# Altium integrated library ALTIUM-WE-TVS-HS-rev18b.IntLib: 32 symbols
Pins are listed as number, name and electrical type; pins without a type are passive.

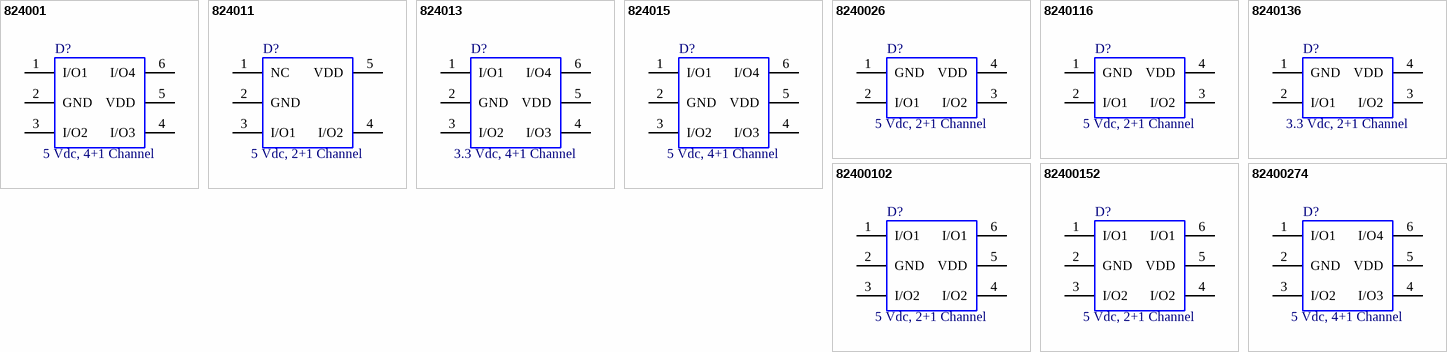
[diagram p0: symbols 824001 to 82400274]

## 824001
designator D?, comment 5 Vdc, 4+1 Channel
TVS Diode - High Speed Series WE-TVS, SOT23-6L, 5 Vdc, 4+1 Channel; Part Number: 824001; Reverse Breakdown Voltage min.: 6.2 V; Channel Input Capacitance: 1 pF; Reverse Peak Pulse Current: 5 A; Reverse Channel Leakage Current: 5 uA; DC Operating Voltage: 5 V; ComponentLink1Description: Manufacturer; ComponentLink1URL: http://www.we-online.de; ComponentLink2Description: Datasheet; ComponentLink2URL: https://katalog.we-online.de/pbs/datasheet/824001.pdf; Published Date: November 2018; Publisher: Wurth Elektronik; Size: SOT23-6L; Channel: 4+1; Operating Temperature: -40 to 125 degC; Mounting Technology: SMT; Packaging: Tape and Reel
footprint WE-TVS_High Speed_SOT23-6L
pins: 1 I/O1, 2 GND, 3 I/O2, 4 I/O3, 5 VDD, 6 I/O4

## 824011
designator D?, comment 5 Vdc, 2+1 Channel
TVS Diode - High Speed Series WE-TVS, SOT23-5L, 5 Vdc, 2+1 Channel; Part Number: 824011; Reverse Breakdown Voltage min.: 6.1 V; Channel Input Capacitance: 2 pF; Reverse Peak Pulse Current: 12 A; Reverse Channel Leakage Current: 5 uA; DC Operating Voltage: 5 V; ComponentLink1Description: Manufacturer; ComponentLink1URL: http://www.we-online.de; ComponentLink2Description: Datasheet; ComponentLink2URL: https://katalog.we-online.de/pbs/datasheet/824011.pdf; Published Date: November 2018; Publisher: Wurth Elektronik; Size: SOT23-5L; Channel: 2+1; Operating Temperature: -55 to 125 degC; Mounting Technology: SMT; Packaging: Tape and Reel
footprint WE-TVS_High Speed_SOT23-5L
pins: 1 NC, 2 GND, 3 I/O1, 4 I/O2, 5 VDD

## 824013
designator D?, comment 3.3 Vdc, 4+1 Channel
TVS Diode - High Speed Series WE-TVS, SOT23-6L, 3.3 Vdc, 4+1 Channel; Part Number: 824013; Reverse Breakdown Voltage min.: 4.5 V; Channel Input Capacitance: 3 pF; Reverse Peak Pulse Current: 12 A; Reverse Channel Leakage Current: 5 uA; DC Operating Voltage: 3.3 V; ComponentLink1Description: Manufacturer; ComponentLink1URL: http://www.we-online.de; ComponentLink2Description: Datasheet; ComponentLink2URL: https://katalog.we-online.de/pbs/datasheet/824013.pdf; Published Date: November 2018; Publisher: Wurth Elektronik; Size: SOT23-6L; Channel: 4+1; Operating Temperature: -40 to 125 degC; Mounting Technology: SMT; Packaging: Tape and Reel
footprint WE-TVS_High Speed_SOT23-6L
pins: 1 I/O1, 2 GND, 3 I/O2, 4 I/O3, 5 VDD, 6 I/O4

## 824015
designator D?, comment 5 Vdc, 4+1 Channel
TVS Diode - High Speed Series WE-TVS, SOT23-6L, 5 Vdc, 4+1 Channel; Part Number: 824015; Reverse Breakdown Voltage min.: 6.1 V; Channel Input Capacitance: 2 pF; Reverse Peak Pulse Current: 12 A; Reverse Channel Leakage Current: 2 uA; DC Operating Voltage: 5 V; ComponentLink1Description: Manufacturer; ComponentLink1URL: http://www.we-online.de; ComponentLink2Description: Datasheet; ComponentLink2URL: https://katalog.we-online.de/pbs/datasheet/824015.pdf; Published Date: November 2018; Publisher: Wurth Elektronik; Size: SOT23-6L; Channel: 4+1; Operating Temperature: -40 to 125 degC; Mounting Technology: SMT; Packaging: Tape and Reel
footprint WE-TVS_High Speed_SOT23-6L
pins: 1 I/O1, 2 GND, 3 I/O2, 4 I/O3, 5 VDD, 6 I/O4

## 8240026
designator D?, comment 5 Vdc, 2+1 Channel
TVS Diode - High Speed Series WE-TVS, SOT143-4L, 5 Vdc, 2+1 Channel; Part Number: 8240026; Reverse Breakdown Voltage min.: 6 V; Channel Input Capacitance: 1.2 pF; Reverse Peak Pulse Current: 6 A; Reverse Channel Leakage Current: 1 uA; DC Operating Voltage: 5 V; ComponentLink1Description: Manufacturer; ComponentLink1URL: http://www.we-online.de; ComponentLink2Description: Datasheet; ComponentLink2URL: https://katalog.we-online.de/pbs/datasheet/8240026.pdf; Published Date: November 2018; Publisher: Wurth Elektronik; Size: SOT143-4L; Channel: 2+1; Operating Temperature: -55 to 125 degC; Mounting Technology: SMT; Packaging: Tape and Reel
footprint WE-TVS_High Speed_SOT143-4L
pins: 1 GND, 2 I/O1, 3 I/O2, 4 VDD

## 8240116
designator D?, comment 5 Vdc, 2+1 Channel
TVS Diode - High Speed Series WE-TVS, SOT143-4L, 5 Vdc, 2+1 Channel; Part Number: 8240116; Reverse Breakdown Voltage min.: 6.1 V; Channel Input Capacitance: 2 pF; Reverse Peak Pulse Current: 12 A; Reverse Channel Leakage Current: 5 uA; DC Operating Voltage: 5 V; ComponentLink1Description: Manufacturer; ComponentLink1URL: http://www.we-online.de; ComponentLink2Description: Datasheet; ComponentLink2URL: https://katalog.we-online.de/pbs/datasheet/8240116.pdf; Published Date: November 2018; Publisher: Wurth Elektronik; Size: SOT143-4L; Channel: 2+1; Operating Temperature: -55 to 125 degC; Mounting Technology: SMT; Packaging: Tape and Reel
footprint WE-TVS_High Speed_SOT143-4L
pins: 1 GND, 2 I/O1, 3 I/O2, 4 VDD

## 8240136
designator D?, comment 3.3 Vdc, 2+1 Channel
TVS Diode - High Speed Series WE-TVS, SOT143-4L, 3.3 Vdc, 2+1 Channel; Part Number: 8240136; Reverse Breakdown Voltage min.: 4.5 V; Channel Input Capacitance: 3 pF; Reverse Peak Pulse Current: 12 A; Reverse Channel Leakage Current: 5 uA; DC Operating Voltage: 3.3 V; ComponentLink1Description: Manufacturer; ComponentLink1URL: http://www.we-online.de; ComponentLink2Description: Datasheet; ComponentLink2URL: https://katalog.we-online.de/pbs/datasheet/8240136.pdf; Published Date: November 2018; Publisher: Wurth Elektronik; Size: SOT143-4L; Channel: 2+1; Operating Temperature: -55 to 125 degC; Mounting Technology: SMT; Packaging: Tape and Reel
footprint WE-TVS_High Speed_SOT143-4L
pins: 1 GND, 2 I/O1, 3 I/O2, 4 VDD

## 82400102
designator D?, comment 5 Vdc, 2+1 Channel
TVS Diode - High Speed Series WE-TVS, SOT23-6L, 5 Vdc, 2+1 Channel; Part Number: 82400102; Reverse Breakdown Voltage min.: 6 V; Channel Input Capacitance: 2 pF; Reverse Peak Pulse Current: 6 A; Reverse Channel Leakage Current: 5 uA; DC Operating Voltage: 5 V; ComponentLink1Description: Manufacturer; ComponentLink1URL: http://www.we-online.de; ComponentLink2Description: Datasheet; ComponentLink2URL: https://katalog.we-online.de/pbs/datasheet/82400102.pdf; Published Date: November 2018; Publisher: Wurth Elektronik; Size: SOT23-6L; Channel: 2+1; Operating Temperature: -40 to 125 degC; Mounting Technology: SMT; Packaging: Tape and Reel
footprint WE-TVS_High Speed_SOT23-6L
pins: 1 I/O1, 2 GND, 3 I/O2, 4 I/O2, 5 VDD, 6 I/O1

## 82400152
designator D?, comment 5 Vdc, 2+1 Channel
TVS Diode - High Speed Series WE-TVS, SOT563, 5 Vdc, 2+1 Channel; Part Number: 82400152; Reverse Breakdown Voltage min.: 6 V; Channel Input Capacitance: 2 pF; Reverse Peak Pulse Current: 6 A; Reverse Channel Leakage Current: 5 uA; DC Operating Voltage: 5 V; ComponentLink1Description: Manufacturer; ComponentLink1URL: http://www.we-online.de; ComponentLink2Description: Datasheet; ComponentLink2URL: https://katalog.we-online.de/pbs/datasheet/82400152.pdf; Published Date: November 2018; Publisher: Wurth Elektronik; Size: SOT563; Channel: 2+1; Operating Temperature: -40 to 125 degC; Mounting Technology: SMT; Packaging: Tape and Reel
footprint WE-TVS_High Speed_SOT563
pins: 1 I/O1, 2 GND, 3 I/O2, 4 I/O2, 5 VDD, 6 I/O1

## 82400274
designator D?, comment 5 Vdc, 4+1 Channel
TVS Diode - High Speed Series WE-TVS, SC70-6L, 5 Vdc, 4+1 Channel; Part Number: 82400274; Reverse Breakdown Voltage min.: 6 V; Channel Input Capacitance: 1.2 pF; Reverse Peak Pulse Current: 6 A; Reverse Channel Leakage Current: 5 uA; DC Operating Voltage: 5 V; ComponentLink1Description: Manufacturer; ComponentLink1URL: http://www.we-online.de; ComponentLink2Description: Datasheet; ComponentLink2URL: https://katalog.we-online.de/pbs/datasheet/82400274.pdf; Published Date: November 2018; Publisher: Wurth Elektronik; Size: SC70-6L; Channel: 4+1; Operating Temperature: -55 to 85 degC; Mounting Technology: SMT; Packaging: Tape and Reel
footprint WE-TVS_High Speed_SC70-6L
pins: 1 I/O1, 2 GND, 3 I/O2, 4 I/O3, 5 VDD, 6 I/O4


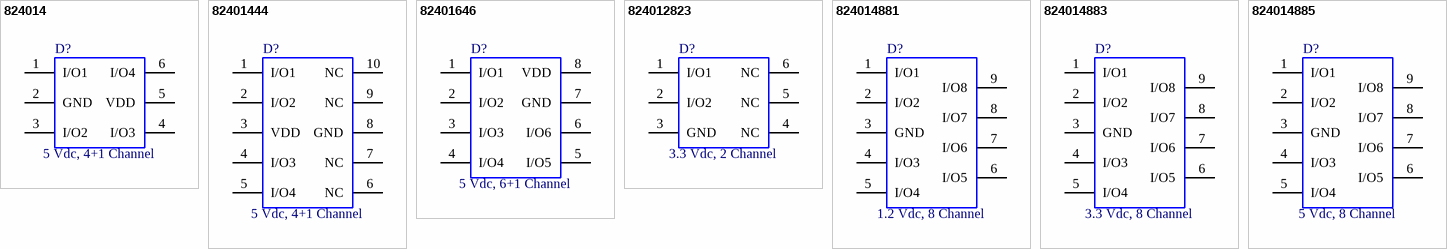
[diagram p1: symbols 824014 to 824014885]

## 824014
designator D?, comment 5 Vdc, 4+1 Channel
TVS Diode - Super Speed Series WE-TVS, SOT23-6L, 5 Vdc, 4+1 Channel; Part Number: 824014; Reverse Breakdown Voltage min.: 6 V; Channel Input Capacitance: 0.55 pF; Reverse Peak Pulse Current: 4 A; Reverse Channel Leakage Current: 5 uA; DC Operating Voltage: 5 V; ComponentLink1Description: Manufacturer; ComponentLink1URL: http://www.we-online.de; ComponentLink2Description: Datasheet; ComponentLink2URL: https://katalog.we-online.de/pbs/datasheet/824014.pdf; Published Date: November 2018; Publisher: Wurth Elektronik; Size: SOT23-6L; Channel: 4+1; Operating Temperature: -55 to 85 degC; Mounting Technology: SMT; Packaging: Tape and Reel
footprint WE-TVS_Super Speed_SOT23-6L
pins: 1 I/O1, 2 GND, 3 I/O2, 4 I/O3, 5 VDD, 6 I/O4

## 82401444
designator D?, comment 5 Vdc, 4+1 Channel
TVS Diode - Super Speed Series WE-TVS, MSOP-10L, 5 Vdc, 4+1 Channel; Part Number: 82401444; Reverse Breakdown Voltage min.: 6 V; Channel Input Capacitance: 0.6 pF; Reverse Peak Pulse Current: 5 A; Reverse Channel Leakage Current: 5 uA; DC Operating Voltage: 5 V; ComponentLink1Description: Manufacturer; ComponentLink1URL: http://www.we-online.de; ComponentLink2Description: Datasheet; ComponentLink2URL: https://katalog.we-online.de/pbs/datasheet/82401444.pdf; Published Date: November 2018; Publisher: Wurth Elektronik; Size: MSOP-10L; Channel: 4+1; Operating Temperature: -55 to 85 degC; Mounting Technology: SMT; Packaging: Tape and Reel
footprint WE-TVS_Super Speed_MSOP-10L
pins: 1 I/O1, 2 I/O2, 3 VDD, 4 I/O3, 5 I/O4, 6 NC, 7 NC, 8 GND, 9 NC, 10 NC

## 82401646
designator D?, comment 5 Vdc, 6+1 Channel
TVS Diode - Super Speed Series WE-TVS, MSOP-8L, 5 Vdc, 6+1 Channel; Part Number: 82401646; Reverse Breakdown Voltage min.: 6 V; Channel Input Capacitance: 0.2 pF; Reverse Peak Pulse Current: 2.5 A; Reverse Channel Leakage Current: 2.5 uA; DC Operating Voltage: 5 V; ComponentLink1Description: Manufacturer; ComponentLink1URL: http://www.we-online.de; ComponentLink2Description: Datasheet; ComponentLink2URL: https://katalog.we-online.de/pbs/datasheet/82401646.pdf; Published Date: November 2018; Publisher: Wurth Elektronik; Size: MSOP-8L; Channel: 6+1; Operating Temperature: -55 to 85 degC; Mounting Technology: SMT; Packaging: Tape and Reel
footprint WE-TVS_Super Speed_MSOP-8L
pins: 1 I/O1, 2 I/O2, 3 I/O3, 4 I/O4, 5 I/O5, 6 I/O6, 7 GND, 8 VDD

## 824012823
designator D?, comment 3.3 Vdc, 2 Channel
TVS Diode - Super Speed Series WE-TVS, DFN1210-6L, 3.3 Vdc, 2 Channel; Part Number: 824012823; Reverse Breakdown Voltage min.: 4.5 V; Channel: 2; Channel Input Capacitance: 0.18 pF; Reverse Peak Pulse Current: 3 A; Reverse Channel Leakage Current: 0.5 uA; DC Operating Voltage: 3.3 V; ComponentLink1Description: Manufacturer; ComponentLink1URL: http://www.we-online.de; ComponentLink2Description: Datasheet; ComponentLink2URL: https://katalog.we-online.de/pbs/datasheet/824012823.pdf; Published Date: November 2018; Publisher: Wurth Elektronik; Size: DFN1210-6L; Operating Temperature: -55 to 85 degC; Mounting Technology: SMT; Packaging: Tape and Reel
footprint WE-TVS_Super Speed_DFN1210-6L
pins: 1 I/O1, 2 I/O2, 3 GND, 4 NC, 5 NC, 6 NC

## 824014881
designator D?, comment 1.2 Vdc, 8 Channel
TVS Diode - Super Speed Series WE-TVS, DFN3810-9L, 1.2 Vdc, 8 Channel; Part Number: 824014881; Reverse Breakdown Voltage min.: 4.5 V; Channel: 8; Channel Input Capacitance: 0.35 pF; Reverse Peak Pulse Current: 4 A; Reverse Channel Leakage Current: 0.5 uA; DC Operating Voltage: 1.2 V; ComponentLink1Description: Manufacturer; ComponentLink1URL: http://www.we-online.de; ComponentLink2Description: Datasheet; ComponentLink2URL: https://katalog.we-online.de/pbs/datasheet/824014881.pdf; Published Date: November 2018; Publisher: Wurth Elektronik; Size: DFN3810-9L; Operating Temperature: -55 to 85 degC; Mounting Technology: SMT; Packaging: Tape and Reel
footprint WE-TVS_Super Speed_DFN3810-9L
pins: 1 I/O1, 2 I/O2, 3 GND, 4 I/O3, 5 I/O4, 6 I/O5, 7 I/O6, 8 I/O7, 9 I/O8

## 824014883
designator D?, comment 3.3 Vdc, 8 Channel
TVS Diode - Super Speed Series WE-TVS, DFN3810-9L, 3.3 Vdc, 8 Channel; Part Number: 824014883; Reverse Breakdown Voltage min.: 4.5 V; Channel: 8; Channel Input Capacitance: 0.5 pF; Reverse Peak Pulse Current: 5 A; Reverse Channel Leakage Current: 1 uA; DC Operating Voltage: 3.3 V; ComponentLink1Description: Manufacturer; ComponentLink1URL: http://www.we-online.de; ComponentLink2Description: Datasheet; ComponentLink2URL: https://katalog.we-online.de/pbs/datasheet/824014883.pdf; Published Date: November 2018; Publisher: Wurth Elektronik; Size: DFN3810-9L; Operating Temperature: -55 to 85 degC; Mounting Technology: SMT; Packaging: Tape and Reel
footprint WE-TVS_Super Speed_DFN3810-9L
pins: 1 I/O1, 2 I/O2, 3 GND, 4 I/O3, 5 I/O4, 6 I/O5, 7 I/O6, 8 I/O7, 9 I/O8

## 824014885
designator D?, comment 5 Vdc, 8 Channel
TVS Diode - Super Speed Series WE-TVS, DFN3810-9L, 5 Vdc, 8 Channel; Part Number: 824014885; Reverse Breakdown Voltage min.: 6 V; Channel: 8; Channel Input Capacitance: 0.5 pF; Reverse Peak Pulse Current: 5 A; Reverse Channel Leakage Current: 1 uA; DC Operating Voltage: 5 V; ComponentLink1Description: Manufacturer; ComponentLink1URL: http://www.we-online.de; ComponentLink2Description: Datasheet; ComponentLink2URL: https://katalog.we-online.de/pbs/datasheet/824014885.pdf; Published Date: November 2018; Publisher: Wurth Elektronik; Size: DFN3810-9L; Operating Temperature: -55 to 85 degC; Mounting Technology: SMT; Packaging: Tape and Reel
footprint WE-TVS_Super Speed_DFN3810-9L
pins: 1 I/O1, 2 I/O2, 3 GND, 4 I/O3, 5 I/O4, 6 I/O5, 7 I/O6, 8 I/O7, 9 I/O8


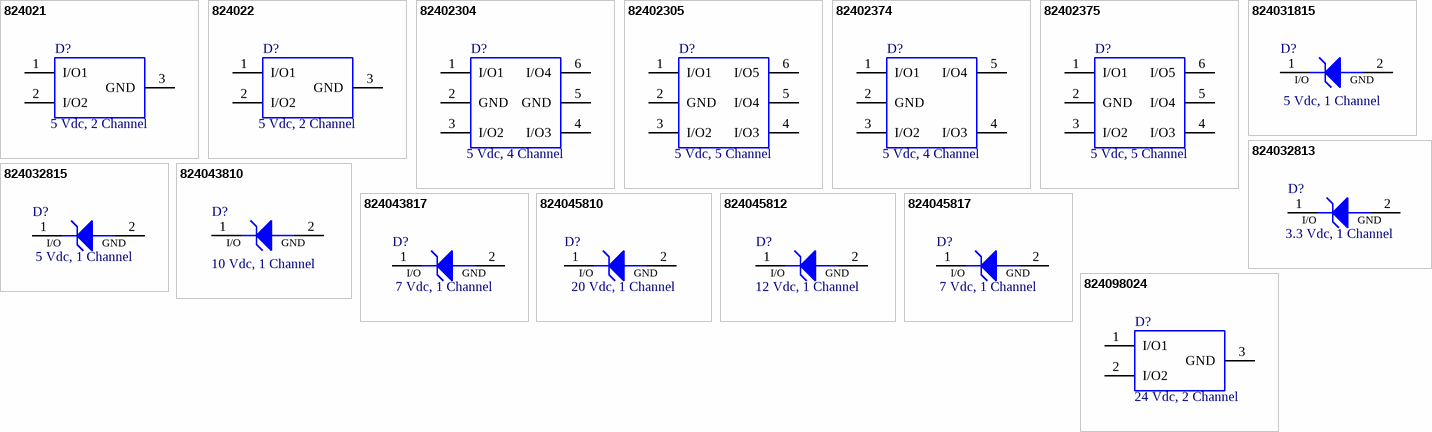
[diagram p2: symbols 824021 to 824098024]

## 824021
designator D?, comment 5 Vdc, 2 Channel
TVS Diode - Standard Series WE-TVS, SOT23-3L, 5 Vdc, 2 Channel; Part Number: 824021; Reverse Breakdown Voltage min.: 6.1 V; Channel: 2; Channel Input Capacitance: 55 pF; Reverse Peak Pulse Current: 15 A; Reverse Channel Leakage Current: 2.5 uA; DC Operating Voltage: 5 V; ComponentLink1Description: Manufacturer; ComponentLink1URL: http://www.we-online.de; ComponentLink2Description: Datasheet; ComponentLink2URL: https://katalog.we-online.de/pbs/datasheet/824021.pdf; Published Date: November 2018; Publisher: Wurth Elektronik; Size: SOT23-3L; Operating Temperature: -55 to 125 degC; Mounting Technology: SMT; Packaging: Tape and Reel
footprint WE-TVS_Standard_SOT23-3L
pins: 1 I/O1, 2 I/O2, 3 GND

## 824022
designator D?, comment 5 Vdc, 2 Channel
TVS Diode - Standard Series WE-TVS, SOT23-3L, 5 Vdc, 2 Channel; Part Number: 824022; Reverse Breakdown Voltage min.: 6.1 V; Channel: 2; Channel Input Capacitance: 12 pF; Reverse Peak Pulse Current: 8 A; Reverse Channel Leakage Current: 2.5 uA; DC Operating Voltage: 5 V; ComponentLink1Description: Manufacturer; ComponentLink1URL: http://www.we-online.de; ComponentLink2Description: Datasheet; ComponentLink2URL: https://katalog.we-online.de/pbs/datasheet/824022.pdf; Published Date: November 2018; Publisher: Wurth Elektronik; Size: SOT23-3L; Operating Temperature: -55 to 125 degC; Mounting Technology: SMT; Packaging: Tape and Reel
footprint WE-TVS_Standard_SOT23-3L
pins: 1 I/O1, 2 I/O2, 3 GND

## 82402304
designator D?, comment 5 Vdc, 4 Channel
TVS Diode - Standard Series WE-TVS, SOT23-6L, 5 Vdc, 4 Channel; Part Number: 82402304; Reverse Breakdown Voltage min.: 6 V; Channel: 4; Channel Input Capacitance: 13 pF; Reverse Peak Pulse Current: 6 A; Reverse Channel Leakage Current: 2.5 uA; DC Operating Voltage: 5 V; ComponentLink1Description: Manufacturer; ComponentLink1URL: http://www.we-online.de; ComponentLink2Description: Datasheet; ComponentLink2URL: https://katalog.we-online.de/pbs/datasheet/82402304.pdf; Published Date: November 2018; Publisher: Wurth Elektronik; Size: SOT23-6L; Operating Temperature: -55 to 85 degC; Mounting Technology: SMT; Packaging: Tape and Reel
footprint WE-TVS_Standard_SOT23-6L
pins: 1 I/O1, 2 GND, 3 I/O2, 4 I/O3, 5 GND, 6 I/O4

## 82402305
designator D?, comment 5 Vdc, 5 Channel
TVS Diode - Standard Series WE-TVS, SOT23-6L, 5 Vdc, 5 Channel; Part Number: 82402305; Reverse Breakdown Voltage min.: 6 V; Channel: 5; Channel Input Capacitance: 13 pF; Reverse Peak Pulse Current: 6 A; Reverse Channel Leakage Current: 2.5 uA; DC Operating Voltage: 5 V; ComponentLink1Description: Manufacturer; ComponentLink1URL: http://www.we-online.de; ComponentLink2Description: Datasheet; ComponentLink2URL: https://katalog.we-online.de/pbs/datasheet/82402305.pdf; Published Date: November 2018; Publisher: Wurth Elektronik; Size: SOT23-6L; Operating Temperature: -55 to 85 degC; Mounting Technology: SMT; Packaging: Tape and Reel
footprint WE-TVS_Standard_SOT23-6L
pins: 1 I/O1, 2 GND, 3 I/O2, 4 I/O3, 5 I/O4, 6 I/O5

## 82402374
designator D?, comment 5 Vdc, 4 Channel
TVS Diode - Standard Series WE-TVS, SC70-5L, 5 Vdc, 4 Channel; Part Number: 82402374; Reverse Breakdown Voltage min.: 6 V; Channel: 4; Channel Input Capacitance: 13 pF; Reverse Peak Pulse Current: 6 A; Reverse Channel Leakage Current: 2.5 uA; DC Operating Voltage: 5 V; ComponentLink1Description: Manufacturer; ComponentLink1URL: http://www.we-online.de; ComponentLink2Description: Datasheet; ComponentLink2URL: https://katalog.we-online.de/pbs/datasheet/82402374.pdf; Published Date: November 2018; Publisher: Wurth Elektronik; Size: SC70-5L; Operating Temperature: -55 to 85 degC; Mounting Technology: SMT; Packaging: Tape and Reel
footprint WE-TVS_Standard_SC70-5L
pins: 1 I/O1, 2 GND, 3 I/O2, 4 I/O3, 5 I/O4

## 82402375
designator D?, comment 5 Vdc, 5 Channel
TVS Diode - Standard Series WE-TVS, SC70-6L, 5 Vdc, 5 Channel; Part Number: 82402375; Reverse Breakdown Voltage min.: 6 V; Channel: 5; Channel Input Capacitance: 13 pF; Reverse Peak Pulse Current: 6 A; Reverse Channel Leakage Current: 2.5 uA; DC Operating Voltage: 5 V; ComponentLink1Description: Manufacturer; ComponentLink1URL: http://www.we-online.de; ComponentLink2Description: Datasheet; ComponentLink2URL: https://katalog.we-online.de/pbs/datasheet/82402375.pdf; Published Date: November 2018; Publisher: Wurth Elektronik; Size: SC70-6L; Operating Temperature: -55 to 85 degC; Mounting Technology: SMT; Packaging: Tape and Reel
footprint WE-TVS_Standard_SC70-6L
pins: 1 I/O1, 2 GND, 3 I/O2, 4 I/O3, 5 I/O4, 6 I/O5

## 824031815
designator D?, comment 5 Vdc, 1 Channel
TVS Diode - Standard Series WE-TVS, DFN1610-2L, 5 Vdc, 1 Channel; Part Number: 824031815; Reverse Breakdown Voltage min.: 6 V; Channel: 1; Channel Input Capacitance: 250 pF; Reverse Peak Pulse Current: 80 A; Reverse Channel Leakage Current: 1 uA; DC Operating Voltage: 5 V; ComponentLink1Description: Manufacturer; ComponentLink1URL: http://www.we-online.de; ComponentLink2Description: Datasheet; ComponentLink2URL: https://katalog.we-online.de/pbs/datasheet/824031815.pdf; Published Date: November 2018; Publisher: Wurth Elektronik; Size: DFN1610-2L; Operating Temperature: -55 to 85 degC; Mounting Technology: SMT; Packaging: Tape and Reel
footprint WE-TVS_Standard_DFN1610-2L
pins: 1 I/O, 2 GND

## 824032813
designator D?, comment 3.3 Vdc, 1 Channel
TVS Diode - Standard Series WE-TVS, DFN1610-2L, 3.3 Vdc, 1 Channel; Part Number: 824032813; Reverse Breakdown Voltage min.: 4 V; Channel: 1; Channel Input Capacitance: 280 pF; Reverse Peak Pulse Current: 180 A; Reverse Channel Leakage Current: 0.5 uA; DC Operating Voltage: 3.3 V; ComponentLink1Description: Manufacturer; ComponentLink1URL: http://www.we-online.de; ComponentLink2Description: Datasheet; ComponentLink2URL: https://katalog.we-online.de/pbs/datasheet/824032813.pdf; Published Date: November 2018; Publisher: Wurth Elektronik; Size: DFN1610-2L; Operating Temperature: -55 to 85 degC; Mounting Technology: SMT; Packaging: Tape and Reel
footprint WE-TVS_Standard_DFN1610-2L
pins: 1 I/O, 2 GND

## 824032815
designator D?, comment 5 Vdc, 1 Channel
TVS Diode - Standard Series WE-TVS, DFN1610-2L, 5 Vdc, 1 Channel; Part Number: 824032815; Reverse Breakdown Voltage min.: 6 V; Channel: 1; Channel Input Capacitance: 140 pF; Reverse Peak Pulse Current: 100 A; Reverse Channel Leakage Current: 1 uA; DC Operating Voltage: 5 V; ComponentLink1Description: Manufacturer; ComponentLink1URL: http://www.we-online.de; ComponentLink2Description: Datasheet; ComponentLink2URL: https://katalog.we-online.de/pbs/datasheet/824032815.pdf; Published Date: November 2018; Publisher: Wurth Elektronik; Size: DFN1610-2L; Operating Temperature: -55 to 85 degC; Mounting Technology: SMT; Packaging: Tape and Reel
footprint WE-TVS_Standard_DFN1610-2L
pins: 1 I/O, 2 GND

## 824043810
designator D?, comment 10 Vdc, 1 Channel
TVS Diode - Standard Series WE-TVS, DFN2020-2L, 10 Vdc, 1 Channel; Part Number: 824043810; Reverse Breakdown Voltage min.: 11.2 V; Channel: 1; Channel Input Capacitance: 950 pF; Reverse Peak Pulse Current: 150 A; Reverse Channel Leakage Current: 1 uA; DC Operating Voltage: 10 V; ComponentLink1Description: Manufacturer; ComponentLink1URL: http://www.we-online.de; ComponentLink2Description: Datasheet; ComponentLink2URL: https://katalog.we-online.de/pbs/datasheet/824043810.pdf; Published Date: November 2018; Publisher: Wurth Elektronik; Size: DFN2020-2L; Operating Temperature: -55 to 85 degC; Mounting Technology: SMT; Packaging: Tape and Reel
footprint WE-TVS_Standard_DFN2020-2L
pins: 1 I/O, 2 GND

## 824043817
designator D?, comment 7 Vdc, 1 Channel
TVS Diode - Standard Series WE-TVS, DFN2020-2L, 7 Vdc, 1 Channel; Part Number: 824043817; Reverse Breakdown Voltage min.: 7.8 V; Channel: 1; Channel Input Capacitance: 1650 pF; Reverse Peak Pulse Current: 180 A; Reverse Channel Leakage Current: 1 uA; DC Operating Voltage: 7 V; ComponentLink1Description: Manufacturer; ComponentLink1URL: http://www.we-online.de; ComponentLink2Description: Datasheet; ComponentLink2URL: https://katalog.we-online.de/pbs/datasheet/824043817.pdf; Published Date: November 2018; Publisher: Wurth Elektronik; Size: DFN2020-2L; Operating Temperature: -55 to 85 degC; Mounting Technology: SMT; Packaging: Tape and Reel
footprint WE-TVS_Standard_DFN2020-2L
pins: 1 I/O, 2 GND

## 824045810
designator D?, comment 20 Vdc, 1 Channel
TVS Diode - Standard Series WE-TVS, DFN1610-2L, 20 Vdc, 1 Channel; Part Number: 824045810; Reverse Breakdown Voltage min.: 22.8 V; Channel: 1; Channel Input Capacitance: 240 pF; Reverse Peak Pulse Current: 24 A; Reverse Channel Leakage Current: 1 uA; DC Operating Voltage: 20 V; ComponentLink1Description: Manufacturer; ComponentLink1URL: http://www.we-online.de; ComponentLink2Description: Datasheet; ComponentLink2URL: https://katalog.we-online.de/pbs/datasheet/824045810.pdf; Published Date: November 2018; Publisher: Wurth Elektronik; Size: DFN1610-2L; Operating Temperature: -55 to 85 degC; Mounting Technology: SMT; Packaging: Tape and Reel
footprint WE-TVS_Standard_DFN1610-2L
pins: 1 I/O, 2 GND

## 824045812
designator D?, comment 12 Vdc, 1 Channel
TVS Diode - Standard Series WE-TVS, DFN1610-2L, 12 Vdc, 1 Channel; Part Number: 824045812; Reverse Breakdown Voltage min.: 13.3 V; Channel: 1; Channel Input Capacitance: 440 pF; Reverse Peak Pulse Current: 38 A; Reverse Channel Leakage Current: 0.1 uA; DC Operating Voltage: 12 V; ComponentLink1Description: Manufacturer; ComponentLink1URL: http://www.we-online.de; ComponentLink2Description: Datasheet; ComponentLink2URL: https://katalog.we-online.de/pbs/datasheet/824045812.pdf; Published Date: November 2018; Publisher: Wurth Elektronik; Size: DFN1610-2L; Operating Temperature: -55 to 85 degC; Mounting Technology: SMT; Packaging: Tape and Reel
footprint WE-TVS_Standard_DFN1610-2L
pins: 1 I/O, 2 GND

## 824045817
designator D?, comment 7 Vdc, 1 Channel
TVS Diode - Standard Series WE-TVS, DFN1610-2L, 7 Vdc, 1 Channel; Part Number: 824045817; Reverse Breakdown Voltage min.: 7.8 V; Channel: 1; Channel Input Capacitance: 830 pF; Reverse Peak Pulse Current: 60 A; Reverse Channel Leakage Current: 1 uA; DC Operating Voltage: 7 V; ComponentLink1Description: Manufacturer; ComponentLink1URL: http://www.we-online.de; ComponentLink2Description: Datasheet; ComponentLink2URL: https://katalog.we-online.de/pbs/datasheet/824045817.pdf; Published Date: November 2018; Publisher: Wurth Elektronik; Size: DFN1610-2L; Operating Temperature: -55 to 85 degC; Mounting Technology: SMT; Packaging: Tape and Reel
footprint WE-TVS_Standard_DFN1610-2L
pins: 1 I/O, 2 GND

## 824098024
designator D?, comment 24 Vdc, 2 Channel
TVS Diode - Standard Series WE-TVS, SOT23-3L, 24 Vdc, 2 Channel; Part Number: 824098024; Reverse Breakdown Voltage min.: 26.2 V; Channel: 2; Channel Input Capacitance: 35 pF; Reverse Peak Pulse Current: 6 A; Reverse Channel Leakage Current: 0.5 uA; DC Operating Voltage: 24 V; ComponentLink1Description: Manufacturer; ComponentLink1URL: http://www.we-online.de; ComponentLink2Description: Datasheet; ComponentLink2URL: https://katalog.we-online.de/pbs/datasheet/824098024.pdf; Published Date: November 2018; Publisher: Wurth Elektronik; Size: SOT23-3L; Operating Temperature: -55 to 125 degC; Mounting Technology: SMT; Packaging: Tape and Reel
footprint WE-TVS_Standard_SOT23-3L
pins: 1 I/O1, 2 I/O2, 3 GND